# Altium schematic symbol library Schlib1.SchLib: 25 symbols
Pins are listed as number, name and electrical type; pins without a type are passive.

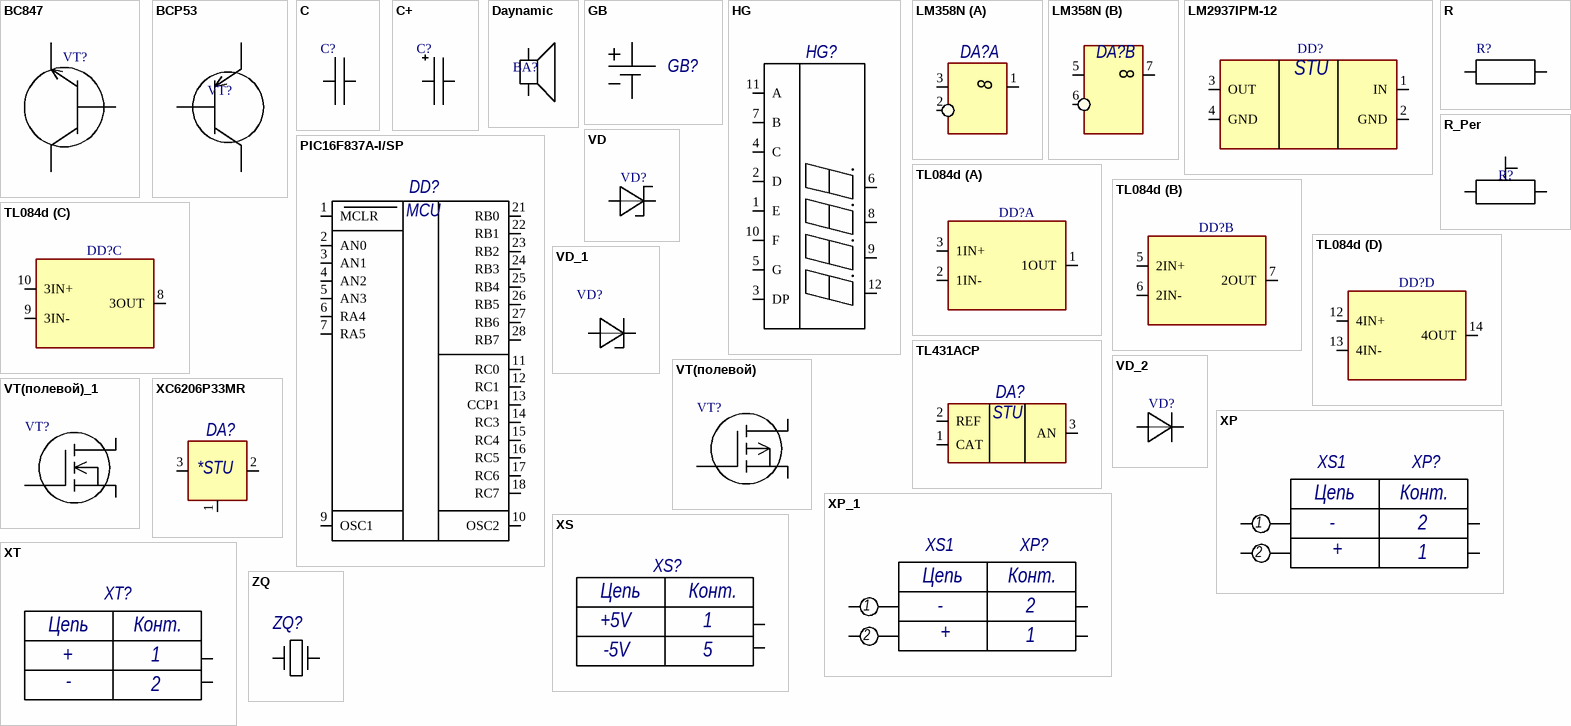
[diagram p0: symbols BC847 to ZQ]

## BC847
designator VT?  (value not drawn)
footprint BC847 (SOT23, 3-Leads, Body 2,90x2,45mm, Pitch 0,95mm, IPC Medium Density)
pins: 1, 2, 3

## BCP53
designator VT?  (value not drawn)
footprint BCP53
pins: 1, 2, 3, 4 hidden to GND

## C
designator C?  (value not drawn)
footprint CAP 1206 (Chip Capacitor, 2-Leads, Body 3,20x1,60mm, IPC Medium Density)
pins: 1, 2

## C+
designator C?  (value not drawn)
footprint CAP 220mkF 16V
pins: 1, 2

## Daynamic
designator BA?  (value not drawn)
footprint Dynamic
pins: 1, 2

## GB
designator GB?  (value not drawn)
pins: 1, 2

## HG
designator HG?  (value not drawn)
footprint FYQ3641AX
pins: 1 E, 2 D, 3 DP, 4 C, 5 G, 6, 7 B, 8, 9, 10 F, 11 A, 12

## LM358N
designator DA?  (value not drawn)
footprint LM358n (SOIC, 8-Leads, Body 4,91x3,90mm, Pitch 1,27mm, IPC Medium Density)
part A pins: 1 1OUT, 2 1IN+, 3 1IN-
part B pins: 4 GND (power) hidden to VSS, 5 1IN-, 6 1IN+, 7 1OUT, 8 VCC (power) hidden to DA3_VCC

## LM2937IPM-12
designator DD?  (value not drawn)
footprint LM2937IMP-12 (SOT223, 4-Leads, Body 6,50x7,00mm (avg), Pitch 2,30mm, IPC Medium Density)
pins: 1 IN, 2 GND, 3 OUT, 4 GND
text: STU

## PIC16F837A-I/SP
designator DD?  (value not drawn)
footprint PIC16F873A (SOP, 28-Leads, Body 17,86x7,46mm, Pitch 1,27mm, IPC Medium Density)
pins: 1 MCLR, 2 AN0, 3 AN1, 4 AN2, 5 AN3, 6 RA4, 7 RA5, 9 OSC1, 10 OSC2, 11 RC0, 12 RC1, 13 CCP1, 14 RC3, 15 RC4, 16 RC5, 17 RC6, 18 RC7, 21 RB0, 22 RB1, 23 RB2, 24 RB3, 25 RB4, 26 RB5, 27 RB6, 28 RB7, VDD 20 (power) hidden to DD1_VDD, VSS 8 (power) hidden to VSS
text: MCU

## R
designator R?  (value not drawn)
footprint RES_SMD_0805
footprint Res_2W
footprint Res_1W
footprint RES_5W
pins: 1, 2

## R_Per
designator R?  (value not drawn)
footprint RP_3306W
pins: 1, 2, 3

## TL084d
designator DD?  (value not drawn)
footprint TL084ACD
pins on every part: 4 V+ (power) hidden to +12V, 11 V- (power) hidden to GND
part A pins: 1 1OUT, 2 1IN-, 3 1IN+
part B pins: 5 2IN+, 6 2IN-, 7 2OUT
part C pins: 8 3OUT, 9 3IN-, 10 3IN+
part D pins: 12 4IN+, 13 4IN-, 14 4OUT

## TL431ACP
designator DA?  (value not drawn)
footprint TL431ACP
pins: 1 CAT, 2 REF, 3 AN
text: STU

## VD
designator VD?  (value not drawn)
footprint 1N5817
pins: 1, 2

## VD_1
designator VD?  (value not drawn)
footprint 1N4728A
pins: 1, 2

## VD_2
designator VD?  (value not drawn)
footprint HER508
pins: 1, 2

## VT(полевой)
designator VT?  (value not drawn)
footprint AO3401
pins: 1, 2, 3

## VT(полевой)_1
designator VT?  (value not drawn)
footprint IRF7413 (SOIC, 8-Leads, Body 4,90x3,90mm, Pitch 1,27mm, IPC Medium Density)
pins: 1, 2, 3

## XC6206P33MR
designator DA?  (value not drawn)
footprint XC6206P332MR
pins: 1 VSS, 2 OUT, 3 IN
text: *STU

## XP
designator XP?  (value not drawn)
footprint PIN_2
pins: 1, 2, 3, 4
text: XS1; Цепь; Конт.; -; +

## XP_1
designator XP?  (value not drawn)
footprint PIN_2
pins: 1, 2, 3, 4
text: XS1; Цепь; Конт.; -; +

## XS
designator XS?  (value not drawn)
footprint USB
pins: 1, 2 hidden, 3 hidden, 4 hidden, 5
text: Цепь; Конт.; +5V; -5V

## XT
designator XT?  (value not drawn)
footprint MA522-500M2
pins: 1, 2
text: Цепь; Конт.; +; -

## ZQ
designator ZQ?  (value not drawn)
footprint ZQ
pins: 1, 2